# Altium schematic symbol library LDO-DC_DC.SchLib: 91 symbols (part 1 of 2)
Pins are listed as number, name and electrical type; pins without a type are passive.

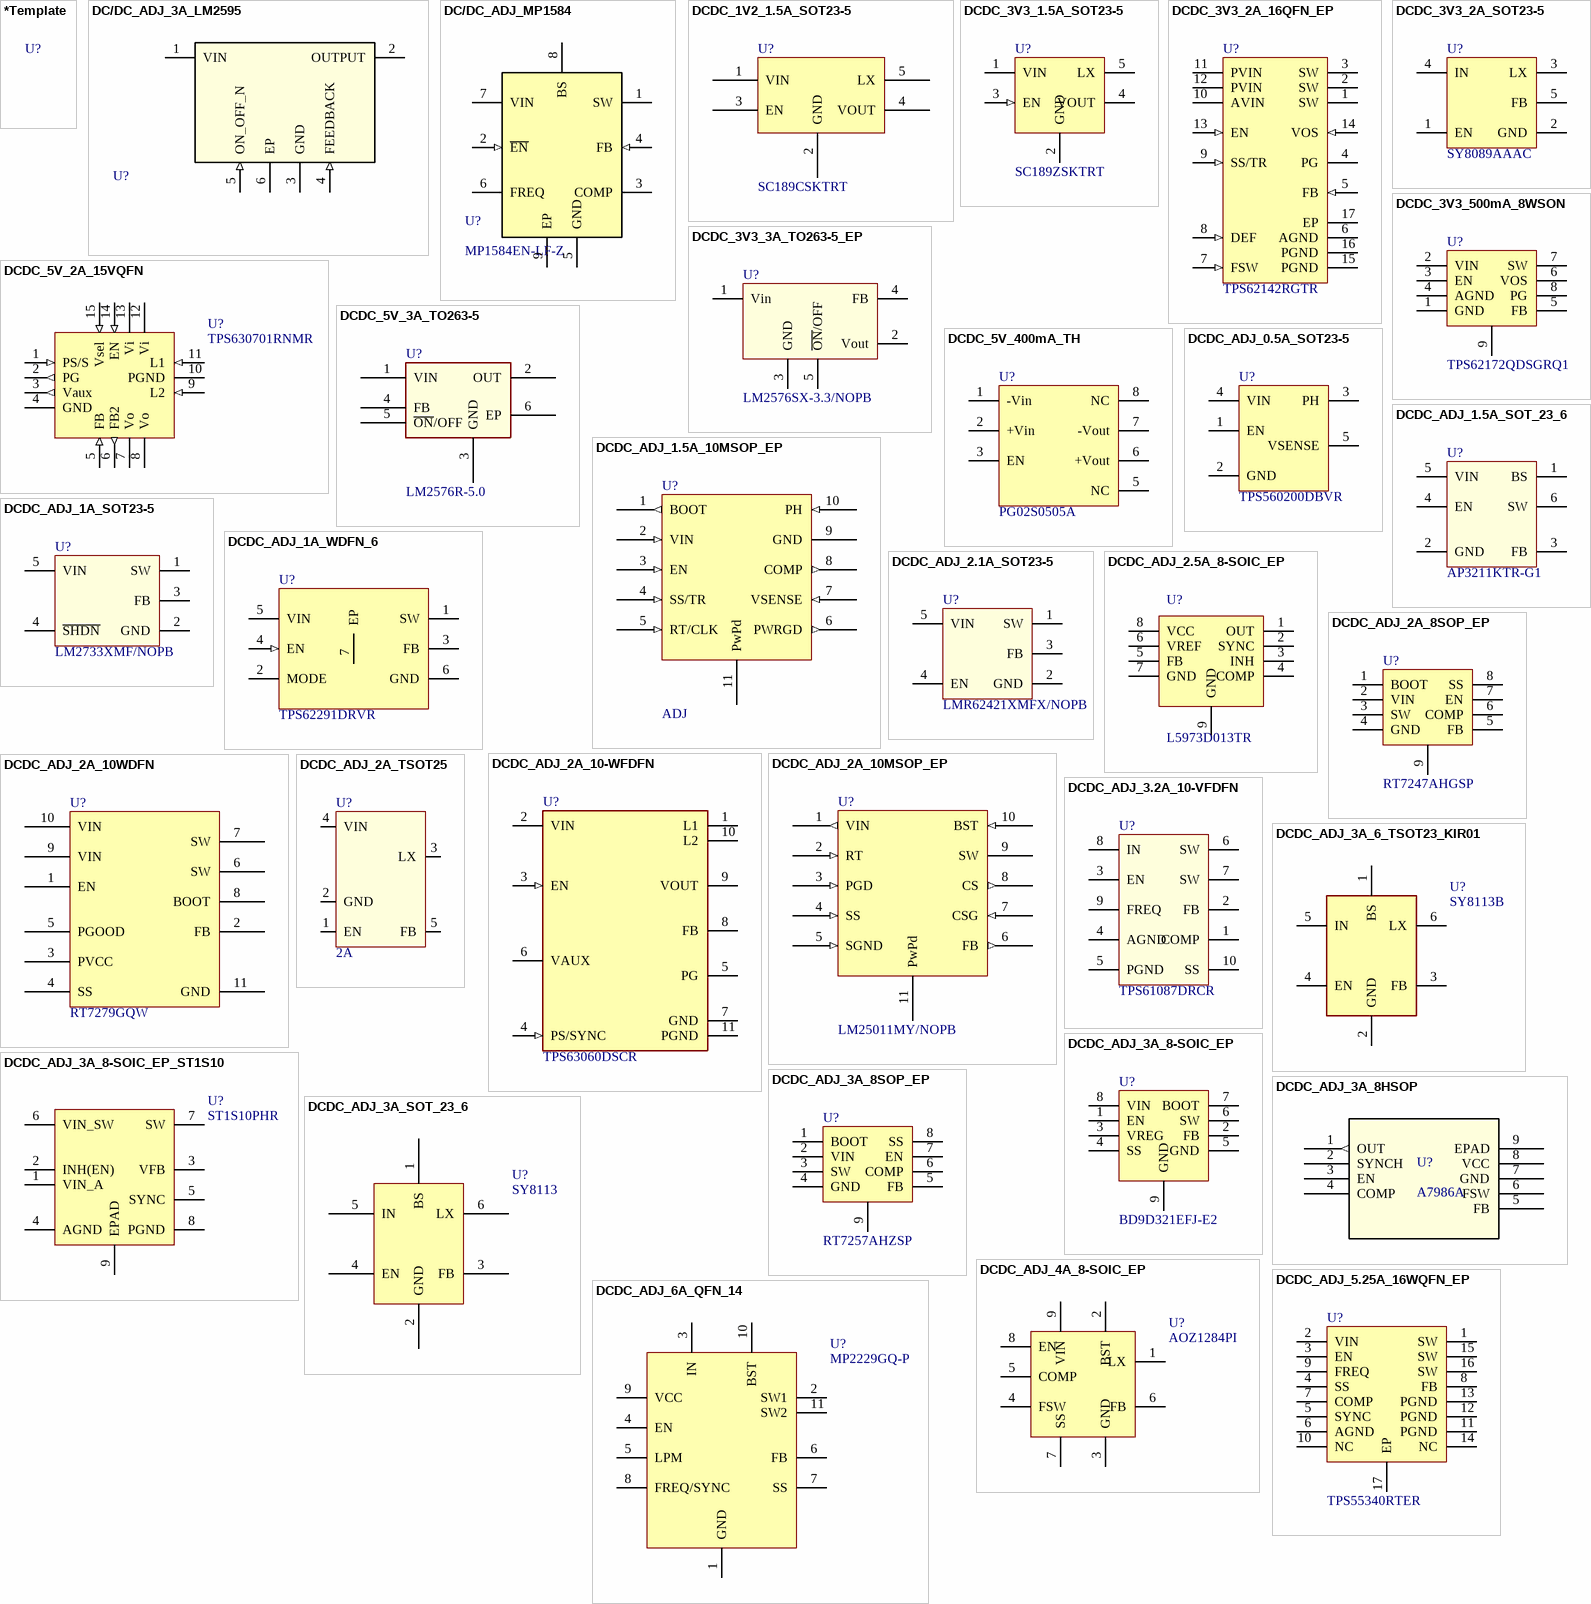
[diagram p0: symbols *Template to DCDC_ADJ_6A_QFN_14]

## *Template
designator U?
Reel Stock: N/A; Last modified by: J.Jaramillo; Last modified date: 20240310

## DC/DC_ADJ_3A_LM2595
designator U?
IC REG BUCK ADJ 3A DDPAK; Manufacturer: Texas Instruments; Manufacturer Part Number: LM2596S-ADJ/NOPB; Supplier 1: Digi-Key; Supplier Part Number 1: LM2596S-ADJ/NOPB-ND; Reel Stock: N/A; Last modified by: J.Jaramillo; Last modified date: 20240310; ComponentLink1Description: Digi-Key; ComponentLink1URL: https://www.digikey.com/en/products/detail/texas-instruments/LM2596S-ADJ-NOPB/363705; ComponentLink2Description: Datasheet; ComponentLink2URL: chrome-extension://efaidnbmnnnibpcajpcglclefindmkaj/https://www.ti.com/lit/ds/symlink/lm2596.pdf?HQS=dis-dk-null-digikeymode-dsf-pf-null-wwe&ts=1699831008913
footprint DDPAK-LM2596-ADJ (/ 20231112 / J.Jaramillo)
pins: 1 VIN (power), 2 OUTPUT (power), 3 GND (power), 4 FEEDBACK (in), 5 ON_OFF_N (in), 6 EP (power)

## DC/DC_ADJ_MP1584
designator U?, comment MP1584EN-LF-Z
IC REG BUCK ADJ 3A 8SOIC; Manufacturer: Monolithic Power Systems Inc.; Manufacturer Part Number: MP1584EN-LF-Z; Supplier 1: Digi-Key; Supplier Part Number 1: 1589-1533-1-ND; Reel Stock: N/A; Last modified by: J.Jaramillo; Last modified date: 20240420; ComponentLink1Description: Digi-Key; ComponentLink1URL: https://www.digikey.com/en/products/detail/monolithic-power-systems-inc/MP1584EN-LF-Z/5291742; ComponentLink2Description: Datasheet; ComponentLink2URL: https://drive.google.com/file/d/0BzaKjvCRihgbakZ5SjVhOE8zSFk/view?resourcekey=0-OqpsUZYP_z5Me7RjuUfp-w
footprint SOIC_8_3.9mm_EP (SOP-8-EP / 20240420 / J.Jaramillo)
pins: 1 SW (power), 2 ~{EN} (in), 3 COMP, 4 FB (in), 5 GND (power), 6 FREQ, 7 VIN (power), 8 BS, 9 EP (power)

## DCDC_1V2_1.5A_SOT23-5
designator U?, comment SC189CSKTRT
IC REG BUCK 1.2V 1.5A SOT23-5; Manufacturer: Semtech Corporation; Reel Stock: N/A; Manufacturer Part Number: SC189CSKTRT; Supplier 1: Digi-Key; Supplier Part Number 1: SC189CSKCT-ND; Last modified by: J.Jaramillo; Last modified date: 20240310; ComponentLink1Description: Digi-Key; ComponentLink1URL: https://www.digikey.com/products/en?keywords=SC189CSKCT-ND
footprint SOT_23_5 (SC-74A, SOT-753 / 20190221 / H-D.Garcia)
pins: 1 VIN, 2 GND, 3 EN, 4 VOUT, 5 LX

## DCDC_3V3_1.5A_SOT23-5
designator U?, comment SC189ZSKTRT
IC REG BUCK 3.3V 1.5A SOT23-5; Manufacturer: Semtech Corporation; Manufacturer Part Number: SC189ZSKTRT; Supplier 1: Digi-Key; Supplier Part Number 1: SC189ZSKCT-ND; Last modified by: J.Jaramillo; Last modified date: 20240310; ComponentLink1Description: Digi-Key; ComponentLink1URL: https://www.digikey.com/en/products/detail/semtech-corporation/SC189ZSKTRT/2182360
footprint SOT_23_5 (SC-74A, SOT-753 / 20190221 / H-D.Garcia)
pins: 1 VIN (power) "Supply Input", 2 GND (power) "Ground", 3 EN (in) "Enable Input: Active High. High=ON; low=OFF. MIC5504 have an internal pull-down and this pin may be left floating.", 4 VOUT "No Connection. Pin is not internally connected.", 5 LX (power) "Output Voltage. When disable the MIC5504 switches in an internal 25 ohm load to discharge the external capacitors."

## DCDC_3V3_2A_16QFN_EP
designator U?, comment TPS62142RGTR
IC REG BUCK 3.3V 2A SYNC 16QFN; Manufacturer: Texas Instruments; Reel Stock: N/A; Last modified by: J.Jaramillo; Last modified date: 20240310; Supplier 1: Digi-Key; Manufacturer Part Number: TPS62142RGTR; Supplier Part Number 1: 296-39447-1-ND; ComponentLink1Description: Digi-key; ComponentLink1URL: https://www.digikey.tw/product-detail/en/texas-instruments/TPS62142RGTR/296-39447-1-ND/5143395
footprint VFQFN_16_3x3mm_EP (16-VFQFN / 16-QFN / 20190410 / C-D Viveros)
pins: 1 SW (power) "Switch node, which is connected to the internal MOSFET switches. Connect inductor between SW and output capacitor.", 2 SW (power) "Switch node, which is connected to the internal MOSFET switches. Connect inductor between SW and output capacitor.", 3 SW (power) "Switch node, which is connected to the internal MOSFET switches. Connect inductor between SW and output capacitor.", 4 PG (hiz) "Output power-good (High = VOUT ready, Low = VOUT below nominal regulation); open-drain (requires pullup resistor; goes high-impedance when device is switched off)", 5 FB (in) "Voltage feedback of adjustable version. Connect resistive voltage divider to this pin. Its recommended to connect FB to AGND on fixed output-voltage versions for improved thermal performance.", 6 AGND (power) "Analog ground", 7 FSW (in) "Switching frequency select (Low ?2.5 MHz, High ?1.25 MHz for typical operation)", 8 DEF (in) "Output voltage scaling (Low = nominal, High = nominal + 5%)", 9 SS/TR (in) "Soft-start / tracking pin. An external capacitor connected to this pin sets the internal voltage-reference rise time. It can be used for tracking and sequencing.", 10 AVIN (power) "Supply voltage for control circuitry. Connect to same source as PVIN.", 11 PVIN (power) "Supply voltage for power stage. Connect to same source as AVIN.", 12 PVIN (power) "Supply voltage for power stage. Connect to same source as AVIN.", 13 EN (in) "Enable input (High = enabled, Low = disabled)", 14 VOS (in) "Output-voltage sense pin and connection for the control loop circuitry.", 15 PGND (power) "Power ground", 16 PGND (power) "Power ground", 17 EP (power) "Must be connected to AGND. Must be soldered to achieve appropriate power dissipation and mechanical reliability."

## DCDC_3V3_2A_SOT23-5
designator U?, comment SY8089AAAC
Step-down type SOT-23-5 DC-DC Converters ROHS; Manufacturer: Silergy Corp; Manufacturer Part Number: SY8089AAAC; Supplier 1: LCSC; Supplier Part Number 1: C78988; Reel Stock: N/A; Last modified by: J.Jaramillo; Last modified date: 20240310; ComponentLink1Description: LCSC; ComponentLink1URL: https://lcsc.com/product-detail/DC-DC-Converters_Silergy-Corp-SY8089AAAC_C78988.html
footprint SOT_23_5 (SC-74A, SOT-753 / 20190221 / H-D.Garcia)
pins: 1 EN, 2 GND, 3 LX, 4 IN, 5 FB

## DCDC_3V3_3A_TO263-5_EP
designator U?, comment LM2576SX-3.3/NOPB
IC REG BUCK 3.3V 3A TO263-5; Manufacturer: Texas Instruments; Supplier 1: Digi-key; Supplier Part Number 1: LM2576SX-3.3/NOPBCT-ND; Reel Stock: N/A; Last modified by: J.Jaramillo; Last modified date: 20240310; ComponentLink1Description: Digi-key; ComponentLink1URL: https://www.digikey.com/en/products/detail/texas-instruments/LM2576SX-3-3-NOPB/366792?s=N4IgTCBcDaIDIFkwFYDsA2AygDQLQGYA6fAegDkB5ABQCEQBdAXyA; Manufacturer Part Number: LM2576SX-3.3/NOPB
footprint TO-263_BA (/20220523/F-A.Ospina)
pins: 1 Vin, 2 Vout, 3 GND, 4 FB, 5 ~{ON}/OFF

## DCDC_3V3_500mA_8WSON
designator U?, comment TPS62172QDSGRQ1
IC REG BUCK 3.3V 500MA 8WSON; Manufacturer: Texas Instruments; Manufacturer Part Number: TPS62172QDSGRQ1; Supplier 1: Digi-Key; Supplier Part Number 1: 296-40841-1-ND; Reel Stock: N/A; Last modified by: J.Jaramillo; Last modified date: 20240310; ComponentLink1Description: Digi-Key; ComponentLink1URL: https://www.digikey.com/en/products/detail/texas-instruments/TPS62172QDSGRQ1/5080467
footprint WSON_8_2x2mm (/20210217/J-E.Pachon)
pins: 1 GND, 2 VIN, 3 EN, 4 AGND, 5 FB, 6 VOS, 7 SW, 8 PG, 9 TP

## DCDC_5V_2A_15VQFN
designator U?, comment TPS630701RNMR
IC REG BCK BST 5V 2A SYNC 15VQFN; Manufacturer: Texas Instruments; Reel Stock: N/A; Last modified by: J.Jaramillo; Last modified date: 20240310; ComponentLink1Description: Digi-Key; ComponentLink1URL: https://www.digikey.com/products/en?keywords=296-47298-1-ND; Supplier 1: Digi-Key; Manufacturer Part Number: TPS630701RNMR; Supplier Part Number 1: 296-47298-1-ND
footprint VQFN_15_3x2.5MM (15-VQFN-HR / 20190221 / H-D.Garcia)
pins: 1 PS/S (in), 2 PG (out), 3 Vaux (out), 4 GND (power), 5 FB (in), 6 FB2 (out), 7 Vo (power), 8 Vo (power), 9 L2 (in), 10 PGND (power), 11 L1 (in), 12 Vi (power), 13 Vi (power), 14 EN (in), 15 Vsel (in)

## DCDC_5V_3A_TO263-5
designator U?, comment LM2576R-5.0
IC REG BUCK 5V 3A TO263-5; Manufacturer: HTC; Manufacturer Part Number: LM2576-5.0; Reel Stock: N/A; Last modified by: J.Jaramillo; Last modified date: 20240310; ComponentLink1Description: LCSC; ComponentLink1URL: https://lcsc.com/product-detail/DC-DC-Converters_HTC_LM2576R-5-0_LM2576R-5-0_C82634.html; Supplier 1: Poshton; Supplier Part Number 1: LM2576-5.0
footprint TO-263-5_IB (/20200115/V-A.Patino)
pins: 1 VIN, 2 OUT, 3 GND (power), 4 FB, 5 ~{ON}/OFF, 6 EP (power)

## DCDC_5V_400mA_TH
designator U?, comment PG02S0505A
DC DC CONVERTER 5V 2W; Manufacturer: Delta Electronics; Manufacturer Part Number: PG02S0505A; Supplier 1: Digi-key; Supplier Part Number 1: 941-1177-ND; Reel Stock: N/A; Last modified by: J.Jaramillo; Last modified date: 20240310; ComponentLink1Description: Digi-key; ComponentLink1URL: https://www.digikey.com/en/products/detail/delta-electronics/PG02S0505A/3464463?s=N4IgTCBcDaIAoHEAMYDKSCsmCCIC6AvkA
footprint 8-DIP MODULE, 7-LEADS (/20220607/F-A.Ospina)
pins: 1 -Vin "PS/S", 2 +Vin, 3 EN, 5 NC, 6 +Vout, 7 -Vout, 8 NC

## DCDC_ADJ_0.5A_SOT23-5
designator U?, comment TPS560200DBVR
IC REG BCK ADJ 0.5A SYNC SOT23-5; Manufacturer: Texas Instruments; Manufacturer Part Number: TPS560200DBVR; Reel Stock: N/A; Last modified by: J.Jaramillo; Last modified date: 20240310; ComponentLink1Description: Digi-key; ComponentLink1URL: https://www.digikey.com/product-detail/en/texas-instruments/TPS560200DBVR/296-38559-2-ND/4437959; Supplier 1: Digi-Key; Supplier Part Number 1: 296-38559-1-ND
footprint SOT_23_5 (SC-74A, SOT-753 / 20190221 / H-D.Garcia)
pins: 1 EN, 2 GND, 3 PH, 4 VIN "EXPOSED PAD", 5 VSENSE

## DCDC_ADJ_1.5A_10MSOP_EP
designator U?, comment ADJ
IC REG BUCK ADJ 1.5A 10MSOP; Manufacturer: Texas Instruments; Manufacturer Part Number: TPS54160DGQR; Supplier 1: Digi-Key; Supplier Part Number 1: 296-26984-1-ND; Reel Stock: N/A; Last modified by: J.Jaramillo; Last modified date: 20240310; ComponentLink1Description: Digi-Key; ComponentLink1URL: https://www.digikey.com/product-detail/en/texas-instruments/TPS54160DGQR/296-26984-1-ND/2255280
footprint TFSOP_10_3mm_EP (10-MSOP / 20191217 / M-X.Arias)
pins: 1 BOOT (out), 2 VIN (in), 3 EN (in), 4 SS/TR (in), 5 RT/CLK (in), 6 PWRGD (out), 7 VSENSE (in), 8 COMP (out), 9 GND (power), 10 PH (in), 11 PwPd (power)

## DCDC_ADJ_1.5A_SOT_23_6
designator U?, comment AP3211KTR-G1
IC REG BUCK ADJ 1.5A SOT23-6; Manufacturer: Diodes Incorporated; Manufacturer Part Number: AP3211KTR-G1; Reel Stock: N/A; Last modified by: J.Jaramillo; Last modified date: 20240310; ComponentLink1Description: Digi-Key; ComponentLink1URL: https://www.digikey.com/product-detail/en/diodes-incorporated/AP3211KTR-G1/AP3211KTR-G1DICT-ND/4505305; Supplier 1: Digi-Key; Supplier Part Number 1: AP3211KTR-G1DICT-ND
footprint SOT_23_6 (SC-74,SOT-457 / 20190221 / H-D.Garcia)
pins: 1 BS, 2 GND, 3 FB, 4 EN, 5 VIN "EXPOSED PAD", 6 SW

## DCDC_ADJ_1A_SOT23-5
designator U?, comment LM2733XMF/NOPB
IC REG BOOST ADJ 1A SOT23-5; Manufacturer: Texas Instruments; Manufacturer Part Number: LM2733XMF/NOPB; Supplier 1: Digi-Key; Supplier Part Number 1: LM2733XMF/NOPBCT-ND; Reel Stock: N/A; Last modified by: J.Jaramillo; Last modified date: 20240310; ComponentLink1Description: Digi-Key; ComponentLink1URL: https://www.digikey.com/en/products/detail/texas-instruments/LM2733XMF-NOPB/565164
footprint SOT_23_5 (SC-74A, SOT-753 / 20190221 / H-D.Garcia)
pins: 1 SW, 2 GND, 3 FB, 4 ~{SHDN}, 5 VIN

## DCDC_ADJ_1A_WDFN_6
designator U?, comment TPS62291DRVR
IC REG BUCK 3.3V 1A 6SON; Manufacturer: Texas Instruments; Manufacturer Part Number: TPS62291DRVR; Reel Stock: N/A; Last modified by: J.Jaramillo; Last modified date: 20240310; ComponentLink1Description: Digi-Key; ComponentLink1URL: https://www.digikey.com/en/products/detail/texas-instruments/TPS62291DRVR/1908067?s=N4IgTCBcDaICoAUDKA2MYCcBGAIgJQDU8QBdAXyA; Supplier 1: Digi-Key; Supplier Part Number 1: 296-41859-1-ND
footprint WDFN_6_2x2mm_EP (/20210511/C-A.Serna.A)
pins: 1 SW, 2 MODE, 3 FB, 4 EN (in), 5 VIN, 6 GND (power), 7 EP

## DCDC_ADJ_2.1A_SOT23-5
designator U?, comment LMR62421XMFX/NOPB
IC REG BST SEPIC ADJ 2.1A SOT23; Manufacturer: Texas Instruments; Manufacturer Part Number: LMR62421XMFX/NOPB; Supplier 1: Digi-Key; Supplier Part Number 1: 296-48595-1-ND; Reel Stock: N/A; Last modified by: J.Jaramillo; Last modified date: 20240310; ComponentLink1Description: Digi-Key; ComponentLink1URL: https://www.digikey.com/en/products/detail/texas-instruments/LMR62421XMFX-NOPB/3179259
footprint SOT_23_5 (SC-74A, SOT-753 / 20190221 / H-D.Garcia)
pins: 1 SW, 2 GND, 3 FB, 4 EN, 5 VIN

## DCDC_ADJ_2.5A_8-SOIC_EP
designator U?, comment L5973D013TR
IC REG BUCK ADJ 2.5A 8HSOP; Manufacturer: STMicroelectronics; Manufacturer Part Number: L5973D013TR; Supplier 1: Digi-Key; Supplier Part Number 1: 497-4566-1-ND; Reel Stock: N/A; Last modified by: J.Jaramillo; Last modified date: 20240310; ComponentLink1Description: Digi-Key; ComponentLink1URL: https://www.digikey.com/en/products/detail/stmicroelectronics/L5973D013TR/806392
footprint SOIC_8_3.9mm_EP (SOP-8-EP / 20210511 / C-A.Serna.A)
pins: 1 OUT, 2 SYNC, 3 INH, 4 COMP, 5 FB, 6 VREF, 7 GND, 8 VCC, 9 GND

## DCDC_ADJ_2A_8SOP_EP
designator U?, comment RT7247AHGSP
IC REG BUCK ADJ 2A SYNC 8SOP; Manufacturer: Richtek USA Inc.; Manufacturer Part Number: RT7247AHGSP; Supplier 1: Digi-Key; Supplier Part Number 1: 1028-1205-1-ND; Reel Stock: N/A; Last modified by: J.Jaramillo; Last modified date: 20240310; ComponentLink1Description: Digi-Key; ComponentLink1URL: https://www.digikey.com/products/en?keywords=1028-1205-1-ND
footprint SOIC_8_3.9mm_EP (SOP-8-EP / 20190221 / H-D.Garcia)
pins: 1 BOOT, 2 VIN, 3 SW, 4 GND, 5 FB, 6 COMP, 7 EN, 8 SS, 9 SS

## DCDC_ADJ_2A_10-WFDFN
designator U?, comment TPS63060DSCR
IC REG BCK BST ADJ 2A 10WSON; Manufacturer: Texas Instruments; Manufacturer Part Number: TPS63060DSCR; Supplier 1: Digi-Key; Supplier Part Number 1: 296-30204-1-ND; Reel Stock: N/A; Last modified by: J.Jaramillo; Last modified date: 20240310; ComponentLink1Description: Digi-Key; ComponentLink1URL: https://www.digikey.com/en/products/detail/texas-instruments/TPS63060DSCR/2809529
footprint WFDFN_10_3x3mm_EP (10-WFDFN,10-WSON / 20210511 / C-A.Serna.A)
pins: 1 L1, 2 VIN (power), 3 EN (in), 4 PS/SYNC (in), 5 PG (oc), 6 VAUX, 7 GND (power), 8 FB, 9 VOUT (power), 10 L2, 11 PGND (power)

## DCDC_ADJ_2A_10MSOP_EP
designator U?, comment LM25011MY/NOPB
IC REG BUCK ADJUSTABLE 2A 10MSOP; Manufacturer: Texas Instruments; Manufacturer Part Number: LM25011MY/NOPB; Supplier 1: Digi-Key; Supplier Part Number 1: 296-LM25011MY/NOPBCT-ND; Reel Stock: N/A; Last modified by: J.Jaramillo; Last modified date: 20240310; ComponentLink1Description: Digi-Key; ComponentLink1URL: https://www.digikey.com/en/products/detail/texas-instruments/LM25011MY-NOPB/2080162?s=N4IgTCBcDaIDIFkwFYAMBGdCCaB6AcgPIAKAQiALoC%2BQA
footprint TFSOP_10_3mm_EP (10-MSOP / 20210511 / C-A.Serna.A)
pins: 1 VIN (out), 2 RT (in), 3 PGD (in), 4 SS (in), 5 SGND (in), 6 FB (out), 7 CSG (in), 8 CS (out), 9 SW (power), 10 BST (in), 11 PwPd (power)

## DCDC_ADJ_2A_10WDFN
designator U?, comment RT7279GQW
IC REG BUCK ADJUSTABLE 2A 10WDFN; Manufacturer: Richtek USA Inc.; Manufacturer Part Number: RT7279GQW; Supplier 1: Digi-Key; Supplier Part Number 1: 1028-1275-1-ND; Reel Stock: N/A; Last modified by: J.Jaramillo; Last modified date: 20240310; ComponentLink1Description: Digi-Key; ComponentLink1URL: https://www.digikey.com/en/products/detail/richtek-usa-inc/RT7279GQW/4733226
footprint WDFN_10_3x3mm_EP (/ 20220809 / J-E.Pachon)
pins: 1 EN, 2 FB, 3 PVCC, 4 SS, 5 PGOOD, 6 SW, 7 SW, 8 BOOT, 9 VIN, 10 VIN, 11 GND

## DCDC_ADJ_2A_TSOT25
designator U?, comment 2A
IC REG BUCK ADJ 2A SYNC TSOT25; Manufacturer: Diodes Incorporated; Manufacturer Part Number: AP3429KTTR-G1; Supplier 1: Digi-Key; Supplier Part Number 1: AP3429KTTR-G1DITR-ND; Reel Stock: N/A; Last modified by: J.Jaramillo; Last modified date: 20240310; ComponentLink1Description: Digi-Key; ComponentLink1URL: https://www.digikey.com/product-detail/en/diodes-incorporated/AP3429KTTR-G1/AP3429KTTR-G1DITR-ND/5359835
footprint SOT_23_5 (SC-74A, SOT-753 / 20190221 / H-D.Garcia)
pins: 1 EN, 2 GND, 3 LX, 4 VIN, 5 FB

## DCDC_ADJ_3.2A_10-VFDFN
designator U?, comment TPS61087DRCR
TPS61087 18.5V, 3.2A, 650KHZ / 1; Manufacturer: Texas Instruments; Manufacturer Part Number: TPS61087DRCR; Supplier 1: Digi-Key; Supplier Part Number 1: 2156-TPS61087DRCR-ND; Reel Stock: N/A; Last modified by: J.Jaramillo; Last modified date: 20240310; ComponentLink1Description: Digi-Key; ComponentLink1URL: https://www.digikey.com/en/products/detail/texas-instruments/TPS61087DRCR/13467145
footprint 10-VFDFN_3X3MM_EP (/20210803/J-E.Pachon)
pins: 1 COMP, 2 FB, 3 EN, 4 AGND, 5 PGND, 6 SW, 7 SW, 8 IN, 9 FREQ, 10 SS

## DCDC_ADJ_3A_6_TSOT23_KIR01
designator U?, comment SY8113B
IC REG BUCK ADJ 3A SYNC TSOT23-6; Manufacturer: Silergy; Manufacturer Part Number: SY8113B; Supplier 1: Poshton; Supplier Part Number 1: SY8113B; Reel Stock: N/A; Last modified by: J.Jaramillo; Last modified date: 20240310; ComponentLink1Description: Datasheet Link; ComponentLink1URL: https://datasheetspdf.com/pdf-file/948510/Silergy/SY8113B/1; ComponentLink2Description: Datasheet; ComponentLink2URL: SY8113B-Silergy
footprint TSOT_23_6 (/ 20190712 / C-A.Serna.A)
pins: 1 BS, 2 GND, 3 FB, 4 EN, 5 IN, 6 LX

## DCDC_ADJ_3A_8-SOIC_EP
designator U?, comment BD9D321EFJ-E2
IC REG BUCK ADJ 3A 8HTSOP-J; Manufacturer: Rohm Semiconductor; Manufacturer Part Number: BD9D321EFJ-E2; Supplier 1: Digi-Key; Supplier Part Number 1: BD9D321EFJ-E2CT-ND; Reel Stock: N/A; Last modified by: J.Jaramillo; Last modified date: 20240310; ComponentLink1Description: Digi-Key; ComponentLink1URL: https://www.digikey.com/product-detail/en/rohm-semiconductor/BD9D321EFJ-E2/BD9D321EFJ-E2CT-ND/4625913
footprint SOIC_8_3.9mm_EP (SOP-8-EP / 20210511 / C-A.Serna.A)
pins: 1 EN, 2 FB, 3 VREG, 4 SS, 5 GND, 6 SW, 7 BOOT, 8 VIN, 9 GND

## DCDC_ADJ_3A_8-SOIC_EP_ST1S10
designator U?, comment ST1S10PHR
IC REG BUCK ADJ 3A POWERSO-8; Manufacturer: STMicroelectronics; Manufacturer Part Number: ST1S10PHR; Reel Stock: N/A; Last modified by: J.Jaramillo; Last modified date: 20240310; ComponentLink1Description: Digi-Key; ComponentLink1URL: https://www.digikey.com/en/products/detail/stmicroelectronics/ST1S10PHR/1852380; Supplier 1: Digi-Key; Supplier Part Number 1: 497-6904-1-ND
footprint SOIC_8_3.9mm_EP (SOP-8-EP / 20210511 / C-A.Serna.A)
pins: 1 VIN_A, 2 INH(EN), 3 VFB, 4 AGND, 5 SYNC, 6 VIN_SW, 7 SW, 8 PGND, 9 EPAD "EXPOSED PAD"

## DCDC_ADJ_3A_8HSOP
designator U?, comment A7986A
IC REG BUCK ADJUSTABLE 3A 8HSOP; Manufacturer: STMicroelectronics; Manufacturer Part Number: A7986A; Supplier 1: Digi-Key; Supplier Part Number 1: 497-19581-ND; Reel Stock: N/A; Last modified by: J.Jaramillo; Last modified date: 20240310; ComponentLink1Description: Digi-Key; ComponentLink1URL: https://www.digikey.com/en/products/detail/stmicroelectronics/A7986A/3455548
footprint SOIC_8_3.9mm_EP (SOP-8-EP / 20210511 / C-A.Serna.A)
pins: 1 OUT (out), 2 SYNCH, 3 EN, 4 COMP, 5 FB, 6 FSW, 7 GND (power), 8 VCC (power), 9 EPAD

## DCDC_ADJ_3A_8SOP_EP
designator U?, comment RT7257AHZSP
IC REG BUCK ADJUSTABLE 3A 8SOP; Manufacturer: Richtek USA Inc.; Manufacturer Part Number: RT7257AHZSP; Supplier 1: Digi-Key; Supplier Part Number 1: 1028-1090-1-ND; Reel Stock: N/A; Last modified by: J.Jaramillo; Last modified date: 20240310; ComponentLink1Description: Digi-Key; ComponentLink1URL: https://www.digikey.com/product-detail/en/richtek-usa-inc/RT7257AHZSP/1028-1090-1-ND/3078093
footprint SOIC_8_3.9mm_EP (SOP-8-EP / 20210511 / C-A.Serna.A)
pins: 1 BOOT, 2 VIN, 3 SW, 4 GND, 5 FB, 6 COMP, 7 EN, 8 SS, 9 SS

## DCDC_ADJ_3A_SOT_23_6
designator U?, comment SY8113
Step-Down DC-DC Converter 3A; Manufacturer: Silergy; Manufacturer Part Number: SY8113; Reel Stock: N/A; Last modified by: J.Jaramillo; Last modified date: 20240310; Supplier 1: Poshton; Supplier Part Number 1: SY8113; ComponentLink1Description: Datasheet; ComponentLink1URL: SY8113B-Silergy
footprint SOT_23_6 (SC-74,SOT-457 / 20190221 / H-D.Garcia)
pins: 1 BS, 2 GND, 3 FB, 4 EN, 5 IN, 6 LX

## DCDC_ADJ_4A_8-SOIC_EP
designator U?, comment AOZ1284PI
IC REG BUCK ADJ 4A 8SO; Manufacturer: Alpha & Omega Semiconductor Inc.; Manufacturer Part Number: AOZ1284PI; Reel Stock: N/A; Last modified by: J.Jaramillo; Last modified date: 20240310; ComponentLink1Description: Digi-Key; ComponentLink1URL: https://www.digikey.com/product-detail/en/alpha-omega-semiconductor-inc/AOZ1284PI/785-1689-1-ND/4900905; Supplier 1: Digi-Key; Supplier Part Number 1: 785-1689-1-ND
footprint SOIC_8_3.9mm_EP (SOP-8-EP / 20210511 / C-A.Serna.A)
pins: 1 LX, 2 BST, 3 GND, 4 FSW, 5 COMP, 6 FB, 7 SS, 8 EN, 9 VIN "EXPOSED PAD"

## DCDC_ADJ_5.25A_16WQFN_EP
designator U?, comment TPS55340RTER
IC REG MULT CONFG ISO ADJ 16WQFN; Manufacturer: Texas Instruments; Manufacturer Part Number: TPS55340RTER; Reel Stock: N/A; Last modified by: J.Jaramillo; Last modified date: 20240310; ComponentLink1Description: Digi-Key; ComponentLink1URL: https://www.digikey.com/product-detail/en/texas-instruments/TPS55340RTER/296-37677-1-ND/4833909; Supplier 1: Digi-Key; Supplier Part Number 1: 296-37677-1-ND
footprint WQFN_16_3x3MM_EP (20190516 / V-A.Patino)
pins: 1 SW, 2 VIN, 3 EN, 4 SS, 5 SYNC, 6 AGND, 7 COMP, 8 FB, 9 FREQ, 10 NC, 11 PGND, 12 PGND, 13 PGND, 14 NC, 15 SW, 16 SW, 17 EP

## DCDC_ADJ_6A_QFN_14
designator U?, comment MP2229GQ-P
IC REG BUCK ADJUSTABLE 6A 14QFN; Manufacturer: Monolithic Power Systems Inc.; Manufacturer Part Number: MP2229GQ-P; Supplier 1: Digi-Key; Supplier Part Number 1: 1589-1097-1-ND; Reel Stock: N/A; Last modified by: J.Jaramillo; Last modified date: 20240310; ComponentLink1Description: Digi-Key; ComponentLink1URL: https://www.digikey.com/en/products/detail/monolithic-power-systems-inc/MP2229GQ-P/5298854
footprint QFN_14_3X3MM (20220809 / E.Naranjo)
pins: 1 GND, 2 SW1, 3 IN, 4 EN, 5 LPM, 6 FB, 7 SS, 8 FREQ/SYNC, 9 VCC, 10 BST, 11 SW2

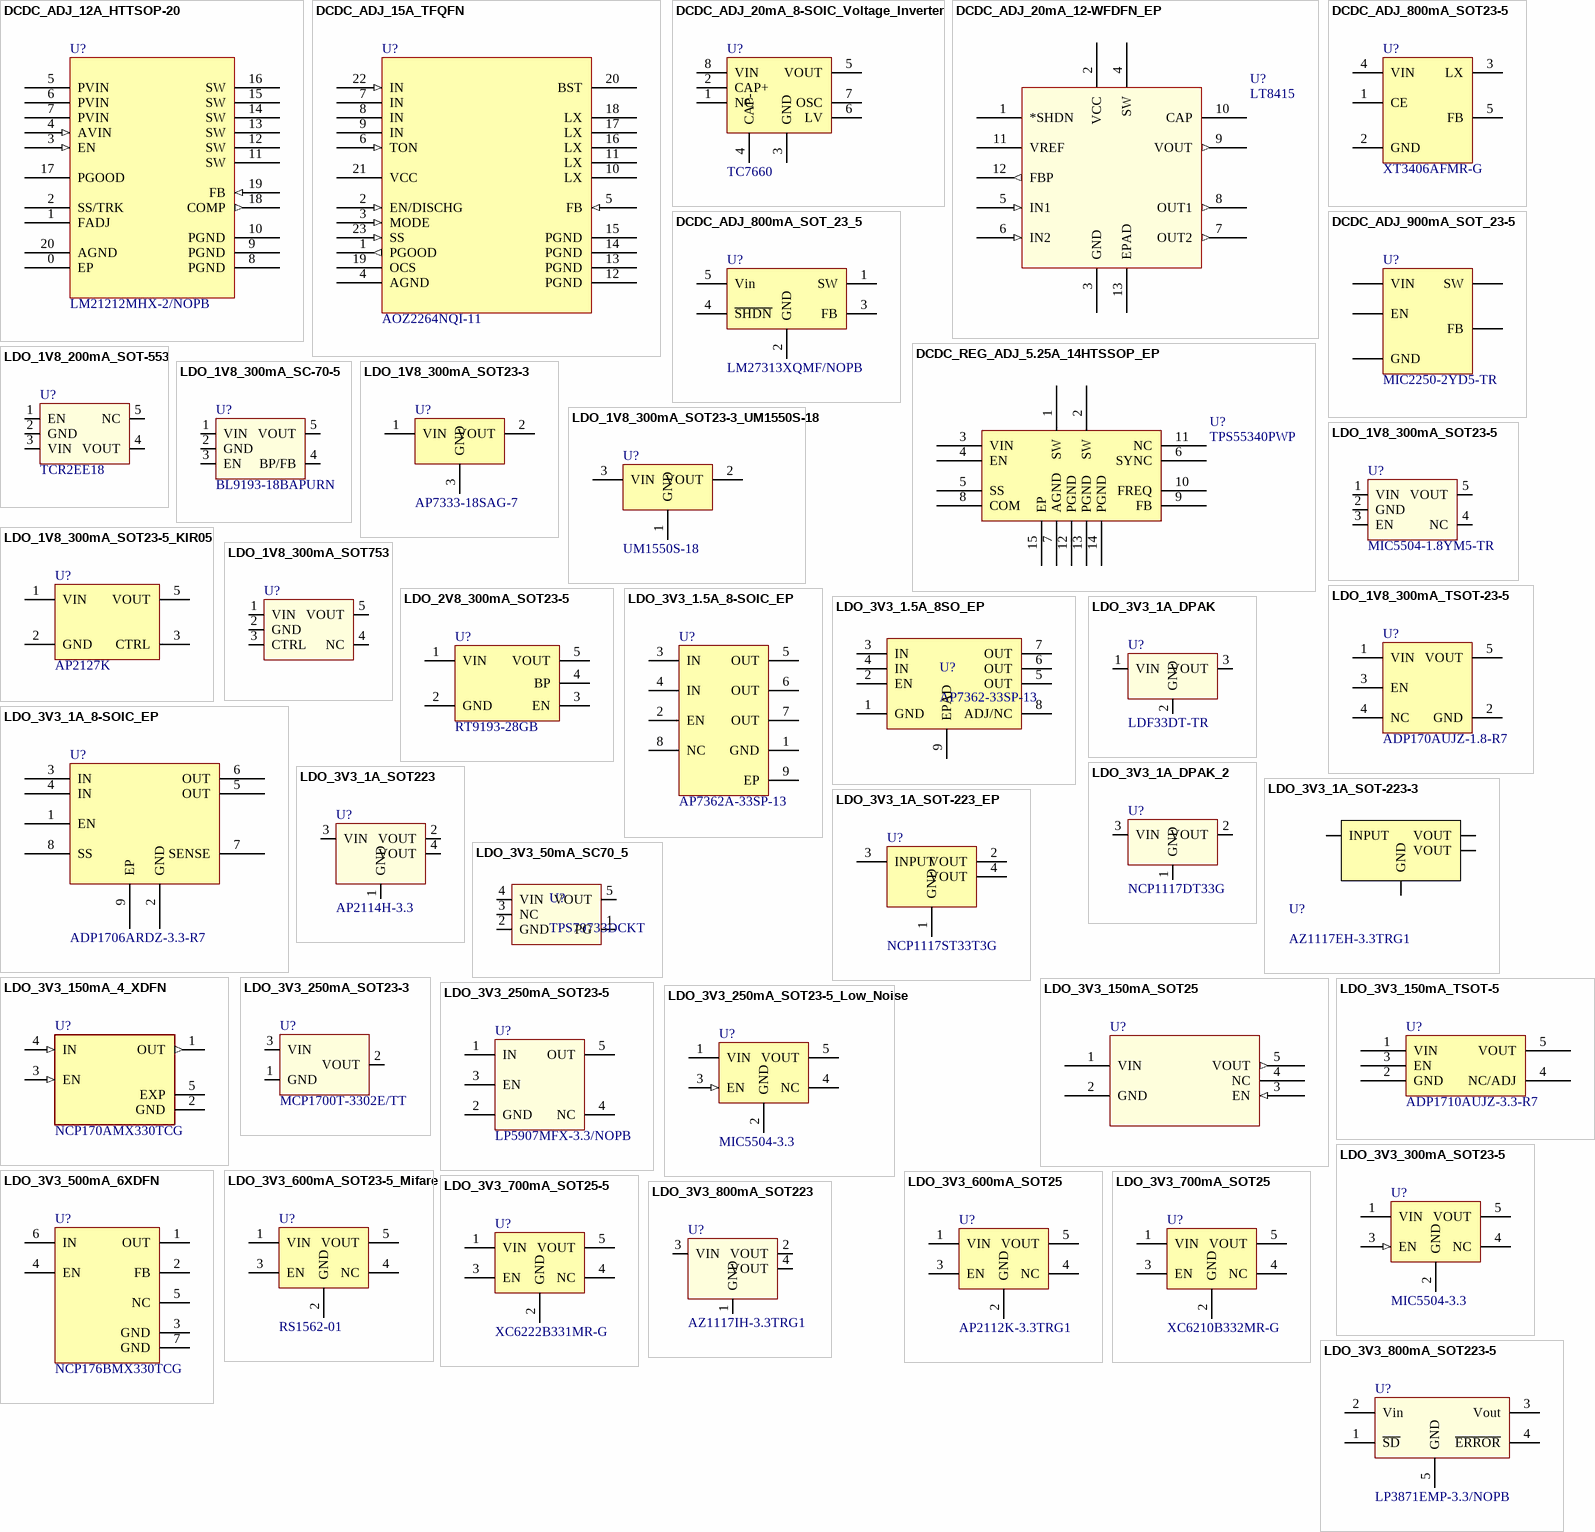
[diagram p1: symbols DCDC_ADJ_12A_HTTSOP-20 to LDO_3V3_800mA_SOT223-5]

## DCDC_ADJ_12A_HTTSOP-20
designator U?, comment LM21212MHX-2/NOPB
IC REG BUCK ADJ 12A 20HTSSOP; Manufacturer: Texas Instruments; Manufacturer Part Number: LM21212MHX-2/NOPB; Supplier 1: Digi-key; Supplier Part Number 1: 296-37121-1-ND; Reel Stock: N/A; Last modified by: J.Jaramillo; Last modified date: 20240310; ComponentLink1Description: Digi-key; ComponentLink1URL: https://www.digikey.com/en/products/detail/texas-instruments/LM21212MHX-2-NOPB/2621474?s=N4IgTCBcDaIDIFkwEYVgQCQBoFowHoA5AeQAUQBdAXyA
footprint HTSSOP_20_EP (20PTSSOP/20220419/V-A.Patino)
pins: 0 EP, 1 FADJ, 2 SS/TRK, 3 EN (in), 4 AVIN (in), 5 PVIN (power), 6 PVIN (power), 7 PVIN (power), 8 PGND (power), 9 PGND (power), 10 PGND (power), 11 SW, 12 SW, 13 SW, 14 SW, 15 SW, 16 SW, 17 PGOOD (power), 18 COMP (out), 19 FB (in), 20 AGND (power)

## DCDC_ADJ_15A_TFQFN
designator U?, comment AOZ2264NQI-11
POWER IC EZBUCK; Manufacturer: Alpha & Omega Semiconductor Inc.; Manufacturer Part Number: AOZ2264NQI-11; Supplier 1: Digi-key; Supplier Part Number 1: 785-1902-1-ND; Reel Stock: N/A; Last modified by: J.Jaramillo; Last modified date: 20240310; ComponentLink1Description: Digi-key; ComponentLink1URL: https://www.digikey.com/en/products/detail/alpha-omega-semiconductor-inc/AOZ2264NQI-11/10258098?s=N4IgTCBcDaIIYHsBeYwDYAsA7AjgSxAF0BfIA
footprint QFNB_23_4*4MM (23-PTQFN/20220419/V-A.Patino)
pins: 1 PGOOD (out), 2 EN/DISCHG (in), 3 MODE (in), 4 AGND, 5 FB (in), 6 TON (in), 7 IN (power), 8 IN (power), 9 IN (power), 10 LX, 11 LX, 12 PGND, 13 PGND, 14 PGND, 15 PGND, 16 LX, 17 LX, 18 LX, 19 OCS, 20 BST (power), 21 VCC (power), 22 IN (in), 23 SS (in)

## DCDC_ADJ_20mA_8-SOIC_Voltage_Inverter
designator U?, comment TC7660
IC REG CHARG PUMP INV 20MA 8SOIC; Manufacturer: Microchip Technology; Manufacturer Part Number: TC7660EOA713; Supplier 1: Digi-Key; Supplier Part Number 1: TC7660EOA713CT-ND; Reel Stock: N/A; Last modified by: J.Jaramillo; Last modified date: 20240310; ComponentLink1Description: Digi-Key; ComponentLink1URL: https://www.digikey.com/product-detail/en/microchip-technology/TC7660EOA713/TC7660EOA713CT-ND/5043642
footprint SOIC_8_3.9mm (Footprint not found)
pins: 1 NC "No Connection. Pin is not internally connected.", 2 CAP+ "No Connection. Pin is not internally connected.", 3 GND (power) "Ground", 4 CAP- "No Connection. Pin is not internally connected.", 5 VOUT (power) "Output Voltage. When disable the MIC5504 switches in an internal 25 ohm load to discharge the external capacitors.", 6 LV "Enable Input: Active High. High=ON; low=OFF. MIC5504 have an internal pull-down and this pin may be left floating.", 7 OSC (power) "Supply Input", 8 VIN (power) "Supply Input"

## DCDC_ADJ_20mA_12-WFDFN_EP
designator U?, comment LT8415
IC REG BOOST ADJ 20MA 12DFN; Manufacturer: Analog Devices Inc.; Manufacturer Part Number: LT8415EDDB#TRMPBF; Supplier 1: Digi-Key; Supplier Part Number 1: LT8415EDDB#TRMPBFCT-ND; Reel Stock: N/A; Last modified by: J.Jaramillo; Last modified date: 20240310; ComponentLink1Description: Digi-Key; ComponentLink1URL: https://www.digikey.com/en/products/detail/analog-devices-inc/LT8415EDDB-TRMPBF/2074421?s=N4IgTCBcDaIDIBUAcAWAjAVgKIBEcCEBiBAJQFkAFfAMRAF0BfIA
footprint WFDFN-12_3X2MM_EP (20211216 / E.Naranjo)
pins: 1 *SHDN, 2 VCC (power), 3 GND (power), 4 SW, 5 IN1 (in), 6 IN2 (in), 7 OUT2 (out), 8 OUT1 (out), 9 VOUT (out), 10 CAP, 11 VREF, 12 FBP (out), 13 EPAD

## DCDC_ADJ_800mA_SOT23-5
designator U?, comment XT3406AFMR-G
5.5V 800mA SOT-23-5L DC-DC; Manufacturer: NATLINEAR; Manufacturer Part Number: XT3406AFMR-G; Reel Stock: N/A; Last modified by: J.Jaramillo; Last modified date: 20240310; ComponentLink1Description: LCSC; ComponentLink1URL: https://lcsc.com/product-detail/DC-DC-Converters_NATLINEAR-XT3406AFMR-G_C190828.html; Supplier 1: LCSC; Supplier Part Number 1: C190828
footprint SOT_23_5 (SC-74A, SOT-753 / 20190221 / H-D.Garcia)
pins: 1 CE, 2 GND, 3 LX, 4 VIN "EXPOSED PAD", 5 FB

## DCDC_ADJ_800mA_SOT_23_5
designator U?, comment LM27313XQMF/NOPB
IC REG BOOST ADJ 800MA SOT23-5; Manufacturer: Diodes Incorporated; Manufacturer Part Number: LM27313XQMF/NOPB; Reel Stock: N/A; Last modified by: J.Jaramillo; Last modified date: 20240310; ComponentLink1Description: Digi-Key; ComponentLink1URL: https://www.digikey.com/en/products/detail/texas-instruments/LM27313XQMF-NOPB/3727236?s=N4IgTCBcDa4JwDYC0BmAHHOakEYkDkAREAXQF8g; Supplier 1: Digi-Key; Supplier Part Number 1: 296-38998-1-ND
footprint SOT_23_5 (SC-74A, SOT-753 / 20190221 / H-D.Garcia)
pins: 1 SW, 2 GND, 3 FB, 4 ~{SHDN}, 5 Vin "EXPOSED PAD"

## DCDC_ADJ_900mA_SOT_23-5
designator U?, comment MIC2250-2YD5-TR
IC REG BOOST ADJ 900MA SOT23-5; Manufacturer: Microchip Technology; Manufacturer Part Number: MIC2250-2YD5-TR; Supplier 1: Digi-Key; Supplier Part Number 1: 576-3968-1-ND; Reel Stock: N/A; Last modified by: J.Jaramillo; Last modified date: 20240310; ComponentLink1Description: Digi-Key; ComponentLink1URL: https://www.digikey.com/en/products/detail/microchip-technology/MIC2250-2YD5-TR/2764088?s=N4IgTCBcDaIKwHYBsBaAzATiQDhQRhQDkAREAXQF8g
footprint SOT_23_5 (SC-74A, SOT-753 / 20190221 / H-D.Garcia)
pins: 1 SW, 2 GND, 3 FB, 4 EN, 5 VIN "EXPOSED PAD"

## DCDC_REG_ADJ_5.25A_14HTSSOP_EP
designator U?, comment TPS55340PWP
IC REG BOOST ADJ 5.25A 14HTSSOP; Manufacturer: Texas Instruments; Manufacturer Part Number: TPS55340PWP; Supplier 1: Digi-Key; Supplier Part Number 1: 296-35493-5-ND; Reel Stock: N/A; Last modified by: J.Jaramillo; Last modified date: 20240310; ComponentLink1Description: Digi-Key; ComponentLink1URL: https://www.digikey.com/en/products/detail/texas-instruments/TPS55340PWP/3768420
footprint 14-HTSSOP_4.4MM_EP (20220111/J-E.Pachon)
pins: 1 SW, 2 SW, 3 VIN, 4 EN, 5 SS, 6 SYNC, 7 AGND, 8 COM, 9 FB, 10 FREQ, 11 NC, 12 PGND, 13 PGND, 14 PGND, 15 EP

## LDO_1V8_200mA_SOT-553
designator U?, comment TCR2EE18
IC REG LINEAR 1.8V 200MA SOT-553; Manufacturer: Toshiba Semiconductor and Storage; Manufacturer Part Number: TCR2EE18,LM(CT; Supplier 1: Digi-Key; Last modified by: J.Jaramillo; Last modified date: 20240310; Supplier Part Number 1: TCR2EE18LM(CTCT-ND; Reel Stock: N/A; ComponentLink1Description: Digi-Key; ComponentLink1URL: https://www.digikey.com/en/products/detail/toshiba-semiconductor-and-storage/TCR2EE18-LM-CT/4503166?s=N4IgTCBcDaICoGEBKYCiqCMAOAMgWQAoFE4BaAOQBEQBdAXyA
footprint SOT_553 (ESV-5 / 20190221 / H-D.Garcia)
pins: 1 EN, 2 GND, 3 VIN, 4 VOUT, 5 NC

## LDO_1V8_300mA_SC-70-5
designator U?, comment BL9193-18BAPURN
IC REG LINEAR 1V8 300mA SC-70-5; Manufacturer: Shanghai Belling; Reel Stock: N/A; Manufacturer Part Number: BL9193-18BAPURN; Supplier 1: Poshton; Supplier Part Number 1: BL9193-18BAPURN; Last modified by: J.Jaramillo; Last modified date: 20240310; ComponentLink1Description: Datasheet; ComponentLink1URL: KIR08_CMP000917_BL9193_3.2.20210201
footprint SC_70_5 (TSSOP5, SOT-353 / 20190221 / H-D.Garcia)
pins: 1 VIN, 2 GND, 3 EN, 4 BP/FB, 5 VOUT

## LDO_1V8_300mA_SOT23-3
designator U?, comment AP7333-18SAG-7
IC REG LINEAR 1.8V 300MA SOT23-3; Manufacturer: Diodes Incorporated; Manufacturer Part Number: AP7333-18SAG-7; Supplier 1: Digi-Key; Supplier Part Number 1: AP7333-18SAG-7DICT-ND; Reel Stock: N/A; Last modified by: J.Jaramillo; Last modified date: 20240310; ComponentLink1Description: Digi-Key; ComponentLink1URL: https://www.digikey.com/product-detail/en/diodes-incorporated/AP7333-18SAG-7/AP7333-18SAG-7DICT-ND/2270848
footprint SOT-23-3_L (TO-236-3, SC-59, SOT-23-3/20190611/N-A.Potosi)
pins: 1 VIN, 2 VOUT, 3 GND

## LDO_1V8_300mA_SOT23-3_UM1550S-18
designator U?, comment UM1550S-18
8V Input Ultra Low Quiescent Cur; Manufacturer: Union Semiconductor International Limited; Manufacturer Part Number: UM1550S-18; Supplier 1: Digi-Key; Supplier Part Number 1: 3351-UM1550S-18TR-ND; Reel Stock: N/A; Last modified by: J.Jaramillo; Last modified date: 20240310; ComponentLink1Description: Digi-Key; ComponentLink1URL: https://www.digikey.com/en/products/detail/union-semiconductor-international-limited/UM1550S-18/16731107?s=N4IgTCBcDaIKoFkCMBWFAGAygWiQDhAF0BfIA
footprint SOT-23-3_L (TO-236-3, SC-59, SOT-23-3/20190611/N-A.Potosi)
pins: 1 GND, 2 VOUT, 3 VIN

## LDO_1V8_300mA_SOT23-5
designator U?, comment MIC5504-1.8YM5-TR
IC REG LINEAR 1.8V 300MA SOT23-5; Manufacturer: Microchip Technology; Manufacturer Part Number: MIC5504-1.8YM5-TR; Supplier 1: Digi-key; Supplier Part Number 1: 576-4879-1-ND; Last modified by: J.Jaramillo; Last modified date: 20240310; ComponentLink1Description: Datasheet; ComponentLink1URL: https://www.digikey.com/product-detail/en/microchip-technology/MIC5504-1.8YM5-TR/576-4879-1-ND/5209405; Reel Stock: N/A
footprint SOT_23_5 (SC-74A, SOT-753 / 20190221 / H-D.Garcia)
pins: 1 VIN, 2 GND, 3 EN, 4 NC, 5 VOUT

## LDO_1V8_300mA_SOT23-5_KIR05
designator U?, comment AP2127K
IC REG LDO 1.8V 0.3A SOT23-5; Manufacturer: Diodes Incorporated; Manufacturer Part Number: AP2127K-1.8TRG1; Reel Stock: N/A; Supplier 1: Digi-Key; Supplier Part Number 1: AP2127K-1.8TRG1DICT-ND; Last modified by: J.Jaramillo; Last modified date: 20240310; ComponentLink1Description: Digi-Key; ComponentLink1URL: https://www.digikey.com/en/products/detail/diodes-incorporated/AP2127K-1-8TRG1/4470784?s=N4IgTCBcDaIIIAUwEYwHYDSBaZA6AHACoBKA4siALoC%2BQA
footprint SOT_23_5 (SC-74A, SOT-753 / 20190221 / H-D.Garcia)
pins: 1 VIN, 2 GND, 3 CTRL, 5 VOUT

## LDO_1V8_300mA_SOT753
designator U?
IC REG LINEAR 1.8V 300MA SMV; Manufacturer: onsemi; Manufacturer Part Number: NCP163ASN180T1G; Reel Stock: N/A; Supplier 1: Digi-Key; Supplier Part Number 1: NCP163ASN180T1GOSCT-ND; Last modified by: J.Jaramillo; Last modified date: 20240310; ComponentLink1Description: Digi-Key; ComponentLink1URL: https://www.digikey.com/en/products/detail/onsemi/NCP163ASN180T1G/10064816?s=N4IgTCBcDaIHIGEAKBGAbAZgIIGU4oA4AGAFRQHEB5HBEgWjgBEQBdAXyA
footprint SOT_753 (SC-74A, SOT-25 / 20220516 / N-A.Potosi)
pins: 1 VIN, 2 GND, 3 CTRL, 4 NC, 5 VOUT

## LDO_1V8_300mA_TSOT-23-5
designator U?, comment ADP170AUJZ-1.8-R7
IC REG LINEAR 1.8V 300MA TSOT5; Manufacturer: Analog Devices Inc.; Manufacturer Part Number: ADP170AUJZ-1.8-R7; Supplier 1: Digi-Key; Supplier Part Number 1: 505-ADP170AUJZ-1.8-R7CT-ND; Reel Stock: N/A; Last modified by: J.Jaramillo; Last modified date: 20240310; ComponentLink1Description: Digi-Key; ComponentLink1URL: https://www.digikey.com/en/products/detail/analog-devices-inc/ADP170AUJZ-1-8-R7/2000961
footprint SOT_23_5 (SC-74A, SOT-753 / 20190221 / H-D.Garcia)
pins: 1 VIN, 2 GND, 3 EN, 4 NC, 5 VOUT

## LDO_2V8_300mA_SOT23-5
designator U?, comment RT9193-28GB
IC REG LINEAR 2.8V 300MA SOT23-5; Manufacturer: Richtek USA Inc.; Reel Stock: N/A; Manufacturer Part Number: RT9193-28GB; Supplier 1: Digi-Key; Supplier Part Number 1: 1028-1072-1-ND; Last modified by: J.Jaramillo; Last modified date: 20240310; ComponentLink1Description: Digi-Key; ComponentLink1URL: https://www.digikey.com/products/en?keywords=1028-1072-1-ND
footprint SOT_23_5 (SC-74A, SOT-753 / 20190221 / H-D.Garcia)
pins: 1 VIN, 2 GND, 3 EN, 4 BP, 5 VOUT

## LDO_3V3_1.5A_8-SOIC_EP
designator U?, comment AP7362A-33SP-13
IC REG LINEAR 3.3V 1.5A 8SO; Manufacturer: Diodes Incorporated; Manufacturer Part Number: AP7362A-33SP-13; Supplier 1: Digi-Key; Supplier Part Number 1: AP7362A-33SP-13DICT-ND; Reel Stock: N/A; Last modified by: J-E.Pachon; Last modified date: 20240310; ComponentLink1Description: Digi-Key; ComponentLink1URL: https://www.digikey.com/en/products/detail/diodes-incorporated/AP7362A-33SP-13/5305858?s=N4IgTCBcDaIIIAUDsBmAbGOBaFKDKCWAjCiALoC%2BQA
footprint SOIC_8_3.9mm_EP (SOP-8-EP / 20210511 / C-A.Serna.A)
pins: 1 GND, 2 EN, 3 IN, 4 IN, 5 OUT, 6 OUT, 7 OUT, 8 NC, 9 EP

## LDO_3V3_1.5A_8SO_EP
designator U?, comment AP7362-33SP-13
IC REG LINEAR 3.3V 1.5A 8SO; Manufacturer: Diodes Incorporated; Manufacturer Part Number: AP7362-33SP-13; Supplier 1: Digi-Key; Supplier Part Number 1: AP7362-33SP-13DICT-ND; Reel Stock: N/A; Last modified by: J.Jaramillo; Last modified date: 20240310; ComponentLink1Description: Digi-Key; ComponentLink1URL: https://www.digikey.com/en/products/detail/diodes-incorporated/ap7362-33sp-13/5305857
footprint SOIC_8_3.9mm_EP (SOP-8-EP / 20210511 / C-A.Serna.A)
pins: 1 GND, 2 EN, 3 IN, 4 IN, 5 OUT, 6 OUT, 7 OUT, 8 ADJ/NC, 9 EPAD

## LDO_3V3_1A_8-SOIC_EP
designator U?, comment ADP1706ARDZ-3.3-R7
IC REG LINEAR 3.3V 1A 8SOIC; Manufacturer: Analog Devices Inc.; Manufacturer Part Number: ADP1706ARDZ-3.3-R7; Supplier 1: Digi-Key; Supplier Part Number 1: ADP1706ARDZ-3.3-R7CT-ND; Reel Stock: N/A; Last modified by: J.Jaramillo; Last modified date: 20240310; ComponentLink1Description: Digi-Key; ComponentLink1URL: https://www.digikey.com/en/products/detail/analog-devices-inc/ADP1706ARDZ-3-3-R7/1766873
footprint SOIC_8_3.9mm_EP (SOP-8-EP / 20210511 / C-A.Serna.A)
pins: 1 EN, 2 GND, 3 IN, 4 IN, 5 OUT, 6 OUT, 7 SENSE, 8 SS, 9 EP

## LDO_3V3_1A_DPAK
designator U?, comment LDF33DT-TR
IC REG LINEAR 3.3V 1A DPAK; Manufacturer: STMicroelectronics; Last modified by: J.Jaramillo; Last modified date: 20240310; ComponentLink1Description: Digi-Key; ComponentLink1URL: https://www.digikey.com/en/products/detail/stmicroelectronics/LDF33DT-TR/4841765?s=N4IgTCBcDaICwE4DsBaAjHAbJt6UDkAREAXQF8g; Reel Stock: N/A; Manufacturer Part Number: LDF33DT-TR; Supplier 1: Digi-Key; Supplier Part Number 1: 497-14661-1-ND
footprint TO252_3 (TO252-3 / 20190221 / H-D.Garcia)
pins: 1 VIN, 2 GND, 3 VOUT

## LDO_3V3_1A_DPAK_2
designator U?, comment NCP1117DT33G
IC REG LINEAR 3.3V 1A DPAK; Manufacturer: onsemi; Manufacturer Part Number: NCP1117DT33G; Supplier 1: Digi-Key; Supplier Part Number 1: NCP1117DT33GOS-ND; Reel Stock: N/A; Last modified by: J.Jaramillo; Last modified date: 20240310; ComponentLink1Description: Digi-Key; ComponentLink1URL: https://www.digikey.com/en/products/detail/onsemi/NCP1117DT33G/1483318?s=N4IgTCBcDaIHIGEAKBGNB2AIgFQMy4HEQBdAXyA
footprint TO252_3 (TO252-3 / 20190221 / H-D.Garcia)
pins: 1 GND, 2 VOUT, 3 VIN

## LDO_3V3_1A_SOT223
designator U?, comment AP2114H-3.3
IC REG LINEAR 3.3V 1A SOT223; Manufacturer: Diodes Incorporated; Manufacturer Part Number: AP2114H-3.3TRG1; Last modified by: J.Jaramillo; Last modified date: 20240310; Reel Stock: N/A; Supplier 1: Digi-Key; Supplier Part Number 1: AP2114H-3.3TRG1DICT-ND; ComponentLink1Description: AP2114H-Datasheet; ComponentLink1URL: https://www.diodes.com/assets/Datasheets/AP2114.pdf; ComponentLink2Description: Digi-Key; ComponentLink2URL: https://www.digikey.com/en/products/detail/diodes-incorporated/AP2114H-3-3TRG1/4470756?s=N4IgTCBcDaIIIAUwEZkBYASBaAzAOhwBUAlAcWRAF0BfIA
footprint SOT_223 (TO-261-4, TO-261AA / 20190829 / M-X.Arias)
pins: 1 GND, 2 VOUT, 3 VIN, 4 VOUT

## LDO_3V3_1A_SOT-223-3
designator U?, comment AZ1117EH-3.3TRG1
IC REG LINEAR 3.3V 1A SOT223; Manufacturer: Diodes Incorporated; Manufacturer Part Number: AZ1117EH-3.3TRG1; Supplier 1: Digi-Key; Supplier Part Number 1: AZ1117EH-3.3TRG1DITR-ND; Reel Stock: N/A; Last modified by: J.Jaramillo; Last modified date: 20231119; ComponentLink1Description: Digi-Key; ComponentLink1URL: https://www.digikey.com/en/products/detail/diodes-incorporated/AZ1117EH-3-3TRG1/5001329?s=N4IgTCBcDaIIIC0CMKDsBRAEgWgMwDpcAVAJQHEkQBdAXyA; ComponentLink2Description: Datasheet; ComponentLink2URL: chrome-extension://efaidnbmnnnibpcajpcglclefindmkaj/https://mm.digikey.com/Volume0/opasdata/d220001/medias/docus/1889/AZ1117E_May2021_Rev.5-4.pdf
footprint SOT_223 (TO-261-4, TO-261AA / 20231119 / J.Jaramillo)
pins: 1 GND (power) "Ground", 2 VOUT (power) "Output Voltage. When disable the MIC5504 switches in an internal 25 ohm load to discharge the external capacitors.", 3 INPUT (power) "Supply Input", 4 VOUT (power) "Output Voltage. When disable the MIC5504 switches in an internal 25 ohm load to discharge the external capacitors."

## LDO_3V3_1A_SOT-223_EP
designator U?, comment NCP1117ST33T3G
IC REG LINEAR 3.3V 1A SOT223; Manufacturer: onsemi; Manufacturer Part Number: NCP1117ST33T3G; Supplier 1: Digi-Key; Supplier Part Number 1: NCP1117ST33T3GOSCT-ND; Reel Stock: N/A; Last modified by: J.Jaramillo; Last modified date: 20240310; ComponentLink1Description: Digi-Key; ComponentLink1URL: https://www.digikey.com/en/products/detail/onsemi/NCP1117ST33T3G/1749063
footprint SOT_223 (TO-261-4, TO-261AA / 20190829 / M-X.Arias)
pins: 1 GND (power) "Ground", 2 VOUT (power) "Output Voltage. When disable the MIC5504 switches in an internal 25 ohm load to discharge the external capacitors.", 3 INPUT (power) "Supply Input", 4 VOUT (power) "Output Voltage. When disable the MIC5504 switches in an internal 25 ohm load to discharge the external capacitors."

## LDO_3V3_50mA_SC70_5
designator U?, comment TPS79733DCKT
IC REG LINEAR 3.3V 50MA SC70-5; Manufacturer: Texas Instruments; Manufacturer Part Number: TPS79733DCKT; Supplier 1: Digi-Key; Supplier Part Number 1: 296-27112-1-ND; Reel Stock: N/A; Last modified by: J.Jaramillo; Last modified date: 20240310; ComponentLink1Description: Digi-Key; ComponentLink1URL: https://www.digikey.com/en/products/detail/texas-instruments/TPS79733DCKT/1908524
footprint SC_70_5 (TSSOP5, SOT-353 / 20190221 / H-D.Garcia)
pins: 1 PG, 2 GND, 3 NC, 4 VIN, 5 VOUT

## LDO_3V3_150mA_4_XDFN
designator U?, comment NCP170AMX330TCG
IC REG LINEAR 3.3V 150MA 4XDFN; Manufacturer: onsemi; Manufacturer Part Number: NCP170AMX330TCG; Supplier 1: Digi-Key; Supplier Part Number 1: NCP170AMX330TCGOSCT-ND; Reel Stock: N/A; Last modified by: J.Jaramillo; Last modified date: 20240310; ComponentLink1Description: Digi-Key; ComponentLink1URL: https://www.digikey.com/en/products/detail/onsemi/NCP170AMX330TCG/5257749?s=N4IgTCBcDaIHIGEAKBGA7ABgIIFkAaAzARgCoIDiA8gMoIkC0cAIiALoC%2BQA
footprint 4-XDFN_1X1MM_EP (20220103 / A-F.Romo)
pins: 1 OUT (out), 2 GND (power), 3 EN (in), 4 IN (in), 5 EXP (power)

## LDO_3V3_150mA_SOT25
designator U?
IC REG LINEAR 3.3V 150MA SOT25; Manufacturer: Diodes Incorporated; Manufacturer Part Number: AP7354-33W5-7; Supplier 1: Digi-Key; Supplier Part Number 1: AP7354-33W5-7DICT-ND; Reel Stock: N/A; Last modified by: J.Jaramillo; Last modified date: 20240310; ComponentLink1Description: Digi-Key; ComponentLink1URL: https://www.digikey.com/en/products/detail/diodes-incorporated/AP7354-33W5-7/9554534
footprint SOT_23_5 (SC-74A, SOT-753 / 20190221 / H-D.Garcia)
pins: 1 VIN (power), 2 GND, 3 EN (in), 4 NC, 5 VOUT (out)

## LDO_3V3_150mA_TSOT-5
designator U?, comment ADP1710AUJZ-3.3-R7
IC REG LINEAR 3.3V 150MA TSOT5; Manufacturer: Analog Devices Inc.; Manufacturer Part Number: ADP1710AUJZ-3.3-R7; Supplier 1: Digi-Key; Supplier Part Number 1: ADP1710AUJZ-3.3-R7CT-ND; Reel Stock: N/A; Last modified by: J.Jaramillo; Last modified date: 20240310; ComponentLink1Description: Digi-Key; ComponentLink1URL: https://www.digikey.com/en/products/detail/analog-devices-inc/ADP1710AUJZ-3-3-R7/1305310?s=N4IgTCBcDaIIIBEAKBGA7CgDHAqgKQC0BaAZgDoSiAlNEAXQF8g
footprint SOT_23_5 (SC-74A, SOT-753 / 20190221 / H-D.Garcia)
pins: 1 VIN, 2 GND, 3 EN, 4 NC/ADJ, 5 VOUT

## LDO_3V3_250mA_SOT23-3
designator U?, comment MCP1700T-3302E/TT
IC REG LINEAR 3.3V 250MA SOT23-3; Manufacturer: Microchip Technology; Manufacturer Part Number: MCP1700T-3302E/TT; Supplier 1: Digi-Key; Supplier Part Number 1: MCP1700T3302ETTCT-ND; Reel Stock: N/A; Last modified by: J.Jaramillo; Last modified date: 20240310; ComponentLink1Description: Digi-Key; ComponentLink1URL: https://www.digikey.com/en/products/detail/microchip-technology/MCP1700T-3302E-TT/652676?s=N4IgTCBcDaILIGEAKBGA7ABgwFQMy4zAFFtsFsBaAOQBEQBdAXyA
footprint SOT-23-3_L (TO-236-3, SC-59, SOT-23-3/20190611/N-A.Potosi)
pins: 1 GND, 2 VOUT, 3 VIN

## LDO_3V3_250mA_SOT23-5
designator U?, comment LP5907MFX-3.3/NOPB
IC REG LINEAR 3.3V 250MA SOT23-5; Manufacturer: Texas Instruments; Manufacturer Part Number: LP5907MFX-3.3/NOPB; Supplier 1: Digi-Key; Supplier Part Number 1: 296-38557-1-ND; Reel Stock: N/A; Last modified by: J.Jaramillo; Last modified date: 20240310; ComponentLink1Description: Digi-Key; ComponentLink1URL: https://www.digikey.com/en/products/detail/texas-instruments/LP5907MFX-3-3-NOPB/3906441?s=N4IgTCBcDaIDIAUCsBOADAdgLIDEAaAtAMwB0RA9AHIDyCAQiALoC%2BQA
footprint SOT_23_5 (SC-74A, SOT-753 / 20190221 / H-D.Garcia)
pins: 1 IN, 2 GND, 3 EN, 4 NC, 5 OUT

## LDO_3V3_250mA_SOT23-5_Low_Noise
designator U?, comment MIC5504-3.3
IC REG LINEAR 3.3V 300MA SOT23-5; Manufacturer: STMicroelectronics; Manufacturer Part Number: LDLN025M33R; Supplier 1: Digi-Key; Supplier Part Number 1: 497-17777-1-ND; Reel Stock: N/A; Last modified by: J.Jaramillo; Last modified date: 20240310; ComponentLink1Description: Digi-Key; ComponentLink1URL: https://www.digikey.ca/en/products/detail/stmicroelectronics/LDLN025M33R/8257608?s=N4IgjCBcpgTAnBaIDGUBmBDANgZwKYA0IA9lANogAsADAKxWw0gC6xADgC5QgDKnAJwCWAOwDmIAL7EwAdlnwooNJCx4ipCuFlUwYOqw7dIfQaImTpIWFoAyAEVsA5GrAMtJQA
footprint SOT_23_5 (SC-74A, SOT-753 / 20190221 / H-D.Garcia)
pins: 1 VIN (power) "Supply Input", 2 GND (power) "Ground", 3 EN (in) "Enable Input: Active High. High=ON; low=OFF. MIC5504 have an internal pull-down and this pin may be left floating.", 4 NC "No Connection. Pin is not internally connected.", 5 VOUT (power) "Output Voltage. When disable the MIC5504 switches in an internal 25 ohm load to discharge the external capacitors."

## LDO_3V3_300mA_SOT23-5
designator U?, comment MIC5504-3.3
IC REG LINEAR 3.3V 300MA SOT23-5; Manufacturer: Microchip Technology; Manufacturer Part Number: MIC5504-3.3YM5-TR; Supplier 1: Digi-Key; Supplier Part Number 1: 576-4764-1-ND; Reel Stock: N/A; Last modified by: J-E.Pachon; Last modified date: 20240310; ComponentLink1Description: Digi-Key; ComponentLink1URL: https://www.digikey.com/product-detail/en/microchip-technology/MIC5504-3.3YM5-TR/576-4764-1-ND/4864028
footprint SOT_23_5 (SC-74A, SOT-753 / 20190221 / H-D.Garcia)
pins: 1 VIN (power) "Supply Input", 2 GND (power) "Ground", 3 EN (in) "Enable Input: Active High. High=ON; low=OFF. MIC5504 have an internal pull-down and this pin may be left floating.", 4 NC "No Connection. Pin is not internally connected.", 5 VOUT (power) "Output Voltage. When disable the MIC5504 switches in an internal 25 ohm load to discharge the external capacitors."

## LDO_3V3_500mA_6XDFN
designator U?, comment NCP176BMX330TCG
IC REG LINEAR 3.3V 500MA 6XDFN; Manufacturer: ON Semiconductor; Manufacturer Part Number: NCP176BMX330TCG; Supplier 1: Digi-Key; Supplier Part Number 1: NCP176BMX330TCGOSCT-ND; Reel Stock: N/A; Last modified by: J.Jaramillo; Last modified date: 20240310; ComponentLink1Description: Digi-Key; ComponentLink1URL: https://www.digikey.com/en/products/detail/on-semiconductor/NCP176BMX330TCG/5817227
footprint XDFN_6_1.2x1.2mm_EP (/20210225/V-A.Patino)
pins: 1 OUT, 2 FB, 3 GND (power), 4 EN, 5 NC, 6 IN, 7 GND (power)

## LDO_3V3_600mA_SOT23-5_Mifare
designator U?, comment RS1562-01
IC REG LINEAR 3.3V 600MA SOT23-5; Manufacturer: DSTECH; Manufacturer Part Number: RS1562-33S5; Supplier 1: Poshton; Supplier Part Number 1: RS1562-33S5; Reel Stock: N/A; Last modified by: J.Jaramillo; Last modified date: 20240310; ComponentLink1Description: Datasheet; ComponentLink1URL: RS1562-01
footprint SOT_23_5 (SC-74A, SOT-753 / 20190221 / H-D.Garcia)
pins: 1 VIN (power) "Supply Input", 2 GND (power) "Ground", 3 EN "Enable Input: Active High. High=ON; low=OFF. MIC5504 have an internal pull-down and this pin may be left floating.", 4 NC "No Connection. Pin is not internally connected.", 5 VOUT (power) "Output Voltage. When disable the MIC5504 switches in an internal 25 ohm load to discharge the external capacitors."

## LDO_3V3_600mA_SOT25
designator U?, comment AP2112K-3.3TRG1
IC REG LINEAR 3.3V 600MA SOT25; Manufacturer: Diodes Incorporated; Manufacturer Part Number: AP2112K-3.3TRG1; Supplier 1: Digi-Key; Supplier Part Number 1: AP2112K-3.3TRG1DICT-ND; Reel Stock: N/A; Last modified by: J.Jaramillo; Last modified date: 20240310; ComponentLink1Description: Digi-Key; ComponentLink1URL: https://www.digikey.com/product-detail/en/diodes-incorporated/AP2112K-3.3TRG1/AP2112K-3.3TRG1DICT-ND/4505257
footprint SOT_23_5 (SC-74A, SOT-753 / 20190221 / H-D.Garcia)
pins: 1 VIN (power) "Supply Input", 2 GND (power) "Ground", 3 EN "Enable Input: Active High. High=ON; low=OFF. MIC5504 have an internal pull-down and this pin may be left floating.", 4 NC "No Connection. Pin is not internally connected.", 5 VOUT (power) "Output Voltage. When disable the MIC5504 switches in an internal 25 ohm load to discharge the external capacitors."

## LDO_3V3_700mA_SOT25
designator U?, comment XC6210B332MR-G
IC REG LINEAR 3.3V 700MA SOT25; Manufacturer: Torex Semiconductor Ltd; Manufacturer Part Number: XC6210B332MR-G; Supplier 1: Digi-Key; Supplier Part Number 1: 893-1075-1-ND; Reel Stock: N/A; Last modified by: J.Jaramillo; Last modified date: 20240310; ComponentLink1Description: Digi-Key; ComponentLink1URL: https://www.digikey.com/en/products/detail/torex-semiconductor-ltd/XC6210B332MR-G/2138119
footprint SOT_23_5 (SC-74A, SOT-753 / 20190221 / H-D.Garcia)
pins: 1 VIN (power) "Supply Input", 2 GND (power) "Ground", 3 EN "Enable Input: Active High. High=ON; low=OFF. MIC5504 have an internal pull-down and this pin may be left floating.", 4 NC "No Connection. Pin is not internally connected.", 5 VOUT (power) "Output Voltage. When disable the MIC5504 switches in an internal 25 ohm load to discharge the external capacitors."

## LDO_3V3_700mA_SOT25-5
designator U?, comment XC6222B331MR-G
IC REG LINEAR 3.3V 700MA SOT25; Manufacturer Part Number: Torex Semiconductor Ltd; Manufacturer: XC6222B331MR-G; Supplier 1: Digi-Key; Supplier Part Number 1: 893-1143-1-ND; Reel Stock: N/A; Last modified by: J.Jaramillo; Last modified date: 20240310; ComponentLink1Description: Digi-Key; ComponentLink1URL: https://www.digikey.com/en/products/detail/torex-semiconductor-ltd/XC6222B331MR-G/2138187?s=N4IgTCBcDaIBwE4DMBaAjGgLKtKByAIiALoC%2BQA
footprint SOT_753 (SC-74A, SOT-25 / 20220516 / N-A.Potosi)
pins: 1 VIN (power) "Supply Input", 2 GND (power) "Ground", 3 EN "Enable Input: Active High. High=ON; low=OFF. MIC5504 have an internal pull-down and this pin may be left floating.", 4 NC "No Connection. Pin is not internally connected.", 5 VOUT (power) "Output Voltage. When disable the MIC5504 switches in an internal 25 ohm load to discharge the external capacitors."

## LDO_3V3_800mA_SOT223
designator U?, comment AZ1117IH-3.3TRG1
IC REG LINEAR 3.3V 800MA SOT223; Manufacturer: Diodes Incorporated; Last modified by: J.Jaramillo; Last modified date: 20240310; Reel Stock: N/A; Manufacturer Part Number: AZ1117IH-3.3TRG1; Supplier 1: Digi-key; Supplier Part Number 1: AZ1117IH-3.3TRG1DICT-ND; ComponentLink1Description: Digi-key; ComponentLink1URL: https://www.digikey.ca/product-detail/en/diodes-incorporated/AZ1117IH-3.3TRG1/AZ1117IH-3.3TRG1DICT-ND/5699682
footprint SOT_223 (TO-261-4, TO-261AA / 20190829 / M-X.Arias)
pins: 1 GND, 2 VOUT, 3 VIN, 4 VOUT

## LDO_3V3_800mA_SOT223-5
designator U?, comment LP3871EMP-3.3/NOPB
IC REG LIN 3.3V 800MA SOT223-5; Manufacturer: Texas Instruments; Supplier 1: Digi-key; Supplier Part Number 1: LP3871EMP-3.3/NOPBCT-ND; Reel Stock: N/A; Last modified by: J.Jaramillo; Last modified date: 20240310; ComponentLink1Description: Digi-key; ComponentLink1URL: https://www.digikey.com/en/products/detail/texas-instruments/LP3871EMP-3-3-NOPB/723338?s=N4IgTCBcDaIDIAUDMAOA7ARgKIFkEFokA6JAegDkB5BAIRAF0BfIA; Manufacturer Part Number: LP3871EMP-3.3/NOPB
footprint SOT_223-5
pins: 1 ~{SD}, 2 Vin, 3 Vout, 4 ~{ERROR}, 5 GND

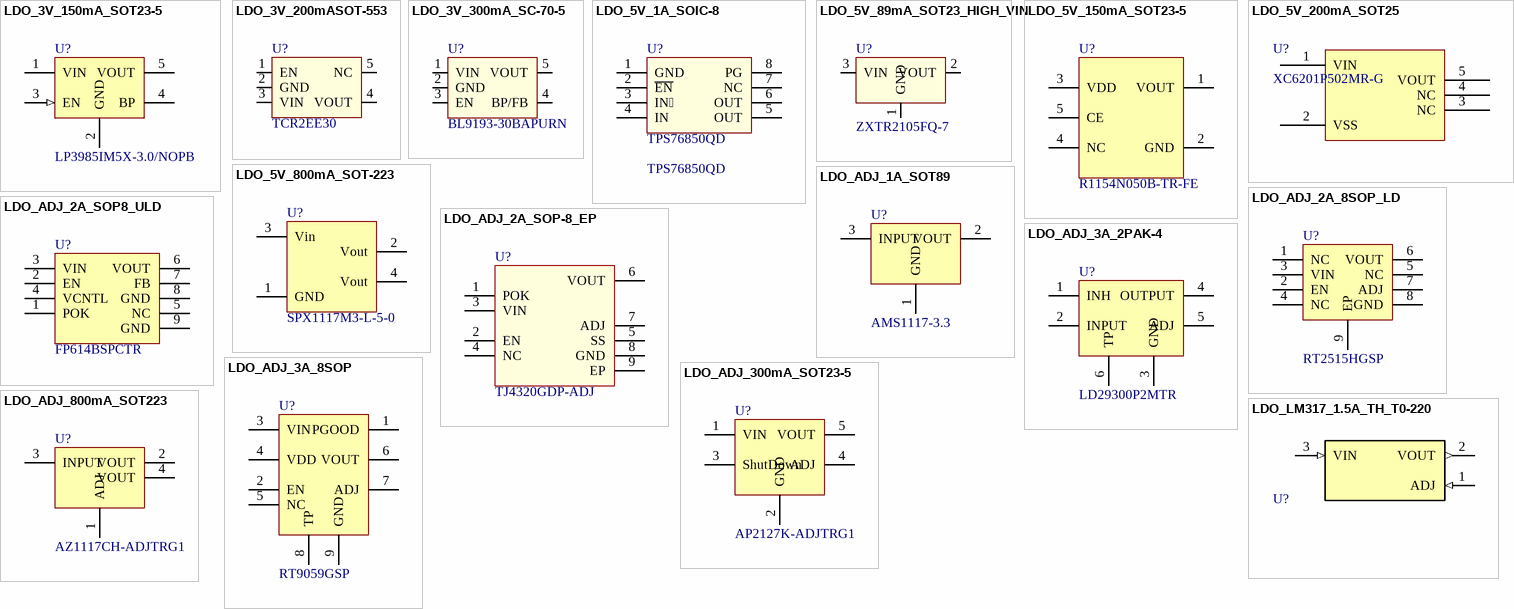
[diagram p2: symbols LDO_3V_150mA_SOT23-5 to LDO_LM317_1.5A_TH_T0-220]